# Altium schematic symbol library 2462.SchLib: 1 symbol
Pins are listed as number, name and electrical type; pins without a type are passive.

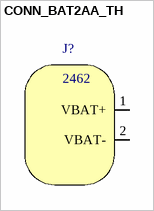
[diagram p0: symbol CONN_BAT2AA_TH]

## CONN_BAT2AA_TH
designator J?, comment 2462
Plugin Battery connector 2x AA ROHS
footprint CONN_BAT2AA_TH (Plugin Battery connector 2x AA ROHS)
pins: 1 VBAT+, 2 VBAT-